# Altium footprint library LMR51420.PcbLib: 5 footprints
Each footprint in its own frame and in the unit in brackets; x right, y up, seen from the top. Pads: shape width x height; smd on the part's side, far side on the other; paste and mask are expansions set on the pad; w line width, h text height; cw(c..) or ccw(c..) is an arc to the next point about the centre after c.
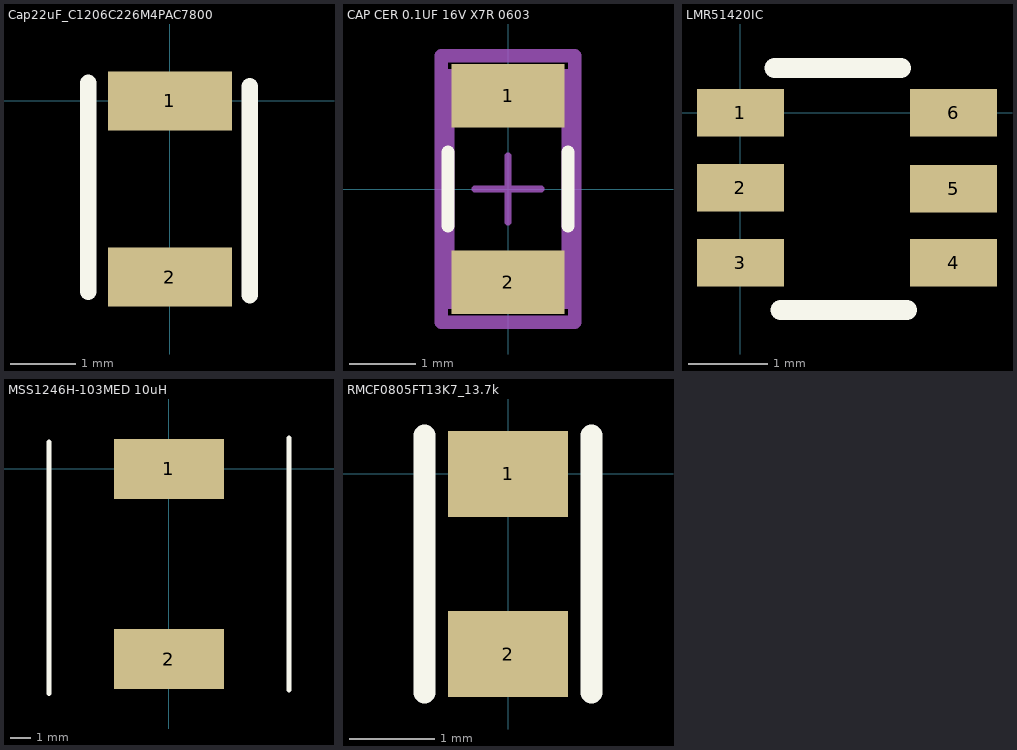
[diagram p0: the footprints below, top view; thin cyan lines are the x and y axes]

## Cap22uF_C1206C226M4PAC7800 [mm]
pads (2):
  rect 1.9x0.9 smd: 1(0,0) 2(0,-2.7)
Top Overlay:
  lines w0.254: -1.25,-2.925 -1.25,0.275 ; 1.225,-2.975 1.225,0.225

## CAP CER 0.1UF 16V X7R 0603 [mm]
pads (2):
  rect 1.7x0.95 smd paste+0 mask+0: 1(-0.002,1.402) 2(-0.002,-1.398)
Top Overlay:
  lines w0.2: -0.902,-0.548 -0.902,0.552 ; 0.898,-0.548 0.898,0.552
Top Assembly:
  lines w0.2: -1.002,-1.998 -1.002,2.002 0.998,2.002 0.998,-1.998 -1.002,-1.998
Top 3D Body:
  lines w0.2: -0.902,-1.698 -0.902,1.702 0.898,1.702 0.898,-1.698 -0.902,-1.698
Top Courtyard:
  lines w0.2: -1.002,-1.998 -1.002,2.002 0.998,2.002 0.998,-1.998 -1.002,-1.998
Top Component Center:
  lines w0.1: -0.502,0.002 0.498,0.002 ; -0.002,-0.498 -0.002,0.502
3D body "Cap_KEMET_C1206C472K4RACTU_eec.STEP": height 0.25, standoff 0, extent -1.002,-1.998 0.998,2.002

## LMR51420IC [mm]
pads (6):
  rect 1.1x0.6 smd: 1(0,0) 2(0,-0.95) 3(0,-1.9) 4(2.7,-1.9) 5(2.7,-0.96) 6(2.7,0)
Top Overlay:
  lines w0.254: 0.432,0.57 2.032,0.57 ; 0.508,-2.5 2.108,-2.5

## MSS1246H-103MED 10uH [mm]
pads (2):
  rect 5.5x3 smd: 1(0,0) 2(0,-9.5)
Top Overlay:
  lines w0.254: -6,-11.227 -6,1.346 ; 6,-11.049 6,1.549

## RMCF0805FT13K7_13.7k [mm]
pads (2):
  rect 1.4x1 smd: 1(0,0) 2(0,-2.1)
Top Overlay:
  lines w0.254: -0.975,-2.55 -0.975,0.45 ; 0.975,-2.55 0.975,0.45